# Altium schematic symbol library Altera.SchLib: 4 symbols
Pins are listed as number, name and electrical type; pins without a type are passive.

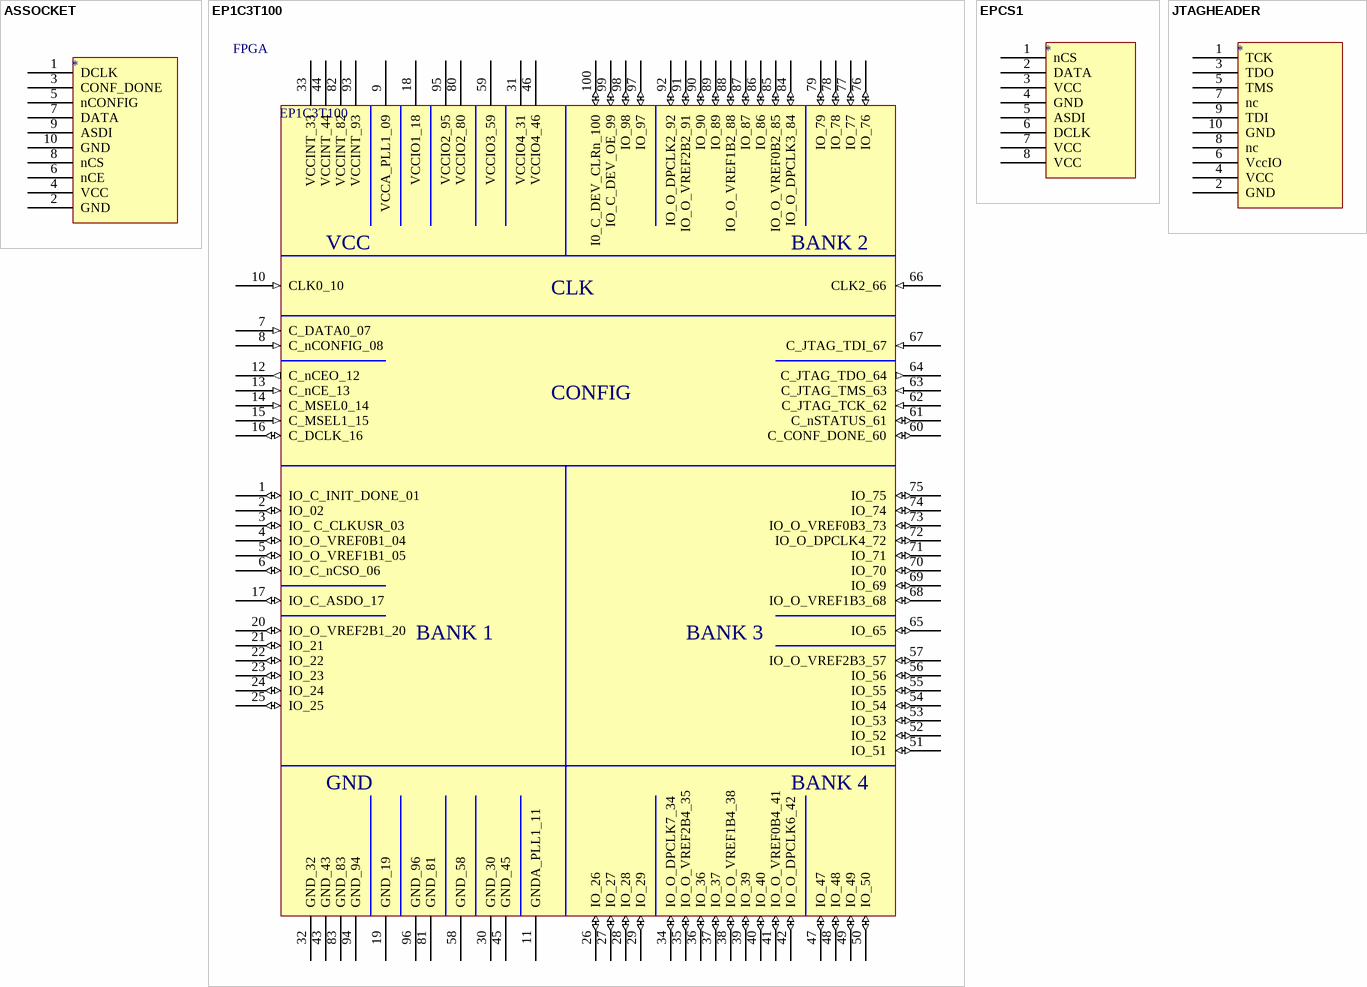
[diagram p0: symbols ASSOCKET to JTAGHEADER]

## ASSOCKET
designator *
footprint HDR2X5
pins: 1 DCLK, 2 GND, 3 CONF_DONE, 4 VCC, 5 nCONFIG, 6 nCE, 7 DATA, 8 nCS, 9 ASDI, 10 GND

## EP1C3T100
designator EP1C3T100, comment FPGA
footprint TQFP100
pins: 1 IO_C_INIT_DONE_01 (io), 2 IO_02 (io), 3 IO_ C_CLKUSR_03 (io), 4 IO_O_VREF0B1_04 (io), 5 IO_O_VREF1B1_05 (io), 6 IO_C_nCSO_06 (io), 7 C_DATA0_07 (in), 8 C_nCONFIG_08 (in), 9 VCCA_PLL1_09 (power), 10 CLK0_10 (in), 11 GNDA_PLL1_11 (power), 12 C_nCEO_12 (out), 13 C_nCE_13 (in), 14 C_MSEL0_14 (in), 15 C_MSEL1_15 (in), 16 C_DCLK_16 (io), 17 IO_C_ASDO_17 (io), 18 VCCIO1_18 (power), 19 GND_19 (power), 20 IO_O_VREF2B1_20 (io), 21 IO_21 (io), 22 IO_22 (io), 23 IO_23 (io), 24 IO_24 (io), 25 IO_25 (io), 26 IO_26 (io), 27 IO_27 (io), 28 IO_28 (io), 29 IO_29 (io), 30 GND_30 (power), 31 VCCIO4_31 (power), 32 GND_32 (power), 33 VCCINT_33 (power), 34 IO_O_DPCLK7_34 (io), 35 IO_O_VREF2B4_35 (io), 36 IO_36 (io), 37 IO_37 (io), 38 IO_O_VREF1B4_38 (io), 39 IO_39 (io), 40 IO_40 (io), 41 IO_O_VREF0B4_41 (io), 42 IO_O_DPCLK6_42 (io), 43 GND_43 (power), 44 VCCINT_44 (power), 45 GND_45 (power), 46 VCCIO4_46 (power), 47 IO_47 (io), 48 IO_48 (io), 49 IO_49 (io), 50 IO_50 (io), 51 IO_51 (io), 52 IO_52 (io), 53 IO_53 (io), 54 IO_54 (io), 55 IO_55 (io), 56 IO_56 (io), 57 IO_O_VREF2B3_57 (io), 58 GND_58 (power), 59 VCCIO3_59 (power), 60 C_CONF_DONE_60 (io), 61 C_nSTATUS_61 (io), 62 C_JTAG_TCK_62 (in), 63 C_JTAG_TMS_63 (in), 64 C_JTAG_TDO_64 (out), 65 IO_65 (io), 66 CLK2_66 (in), 67 C_JTAG_TDI_67 (in), 68 IO_O_VREF1B3_68 (io), 69 IO_69 (io), 70 IO_70 (io), 71 IO_71 (io), 72 IO_O_DPCLK4_72 (io), 73 IO_O_VREF0B3_73 (io), 74 IO_74 (io), 75 IO_75 (io), 76 IO_76 (io), 77 IO_77 (io), 78 IO_78 (io), 79 IO_79 (io), 80 VCCIO2_80 (power), 81 GND_81 (power), 82 VCCINT_82 (power), 83 GND_83 (power), 84 IO_O_DPCLK3_84 (io), 85 IO_O_VREF0B2_85 (io), 86 IO_86 (io), 87 IO_87 (io), 88 IO_O_VREF1B2_88 (io), 89 IO_89 (io), 90 IO_90 (io), 91 IO_O_VREF2B2_91 (io), 92 IO_O_DPCLK2_92 (io), 93 VCCINT_93 (power), 94 GND_94 (power), 95 VCCIO2_95 (power), 96 GND_96 (power), 97 IO_97 (io), 98 IO_98 (io), 99 IO_C_DEV_OE_99 (io), 100 I0_C_DEV_CLRn_100 (io)
text: VCC; BANK 2; CLK; CONFIG; BANK 1; BANK 3; GND; BANK 4

## EPCS1
designator *
footprint SO8
pins: 1 nCS, 2 DATA, 3 VCC, 4 GND, 5 ASDI, 6 DCLK, 7 VCC, 8 VCC

## JTAGHEADER
designator *
footprint HDR2X5
footprint HDR2X5
pins: 1 TCK, 2 GND, 3 TDO, 4 VCC, 5 TMS, 6 VccIO, 7 nc, 8 nc, 9 TDI, 10 GND